# EAGLE library part MMA8451 (library TSat0-Library)
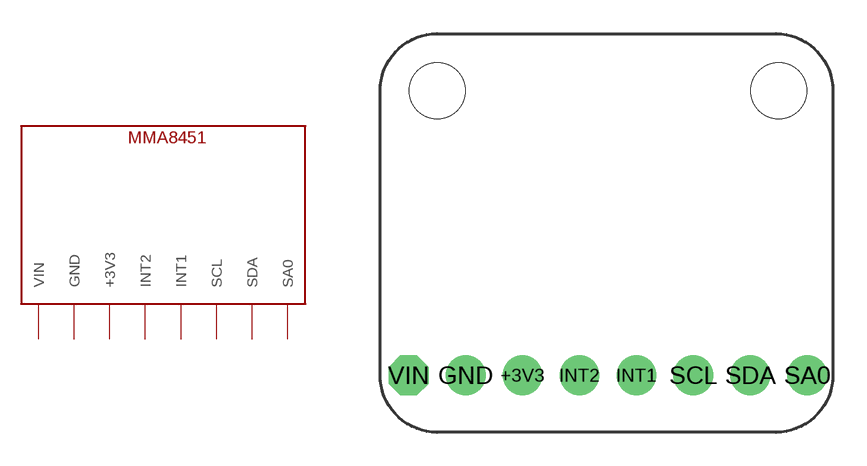
[diagram p0: symbol with the pads of MMA8451-FP; footprint MMA8451-FP]

Designator prefix -

## MMA8451  [MMA8451-FP]
+3V3  +3V3
GND  GND
INT1  INT1
INT2  INT2
SA0  SA0
SCL  SCL
SDA  SDA
VIN  VIN

## Footprint MMA8451-FP (pad centres in mm)
drill 1 pad 1.778: +3V3 6.35,2.54; GND 3.81,2.54; INT1 11.43,2.54; INT2 8.89,2.54; SA0 19.05,2.54; SCL 13.97,2.54; SDA 16.51,2.54
drill 1 pad 1.778 octagon: VIN 1.27,2.54
hole 2.5 at 17.78,15.24
hole 2.5 at 2.54,15.24